# EAGLE library part XC3S4000FG1156 (library xilinx_spartan3_virtex4_and_5)
Xilinx FPGA
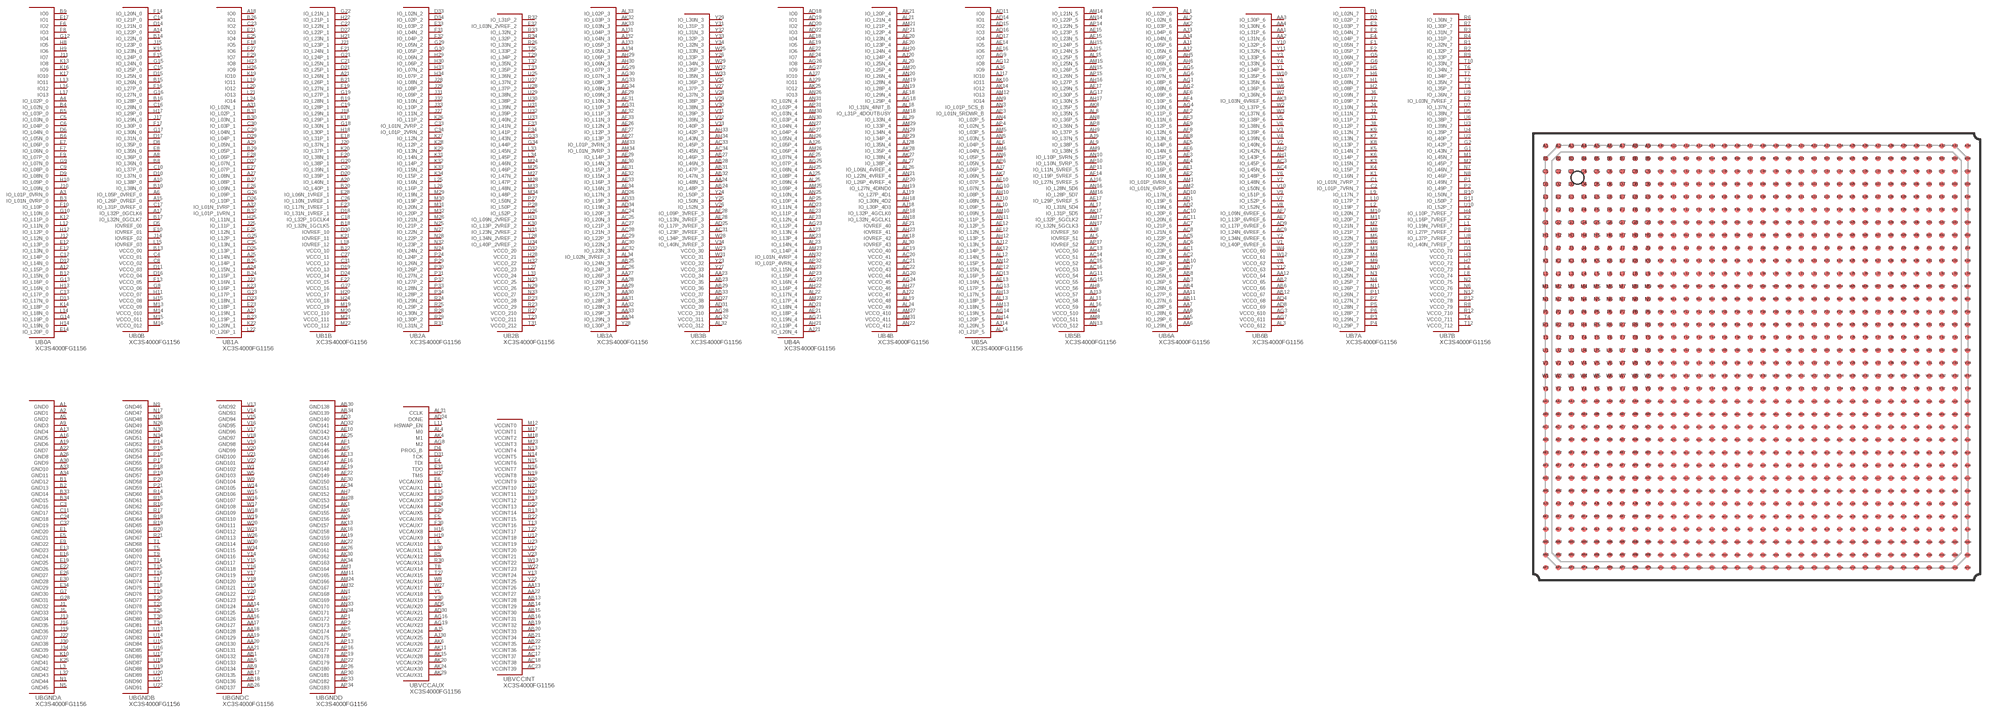
[diagram p26: symbol with the pads of FG1156; footprint FG1156]

Designator prefix U; gates B0A=XC3S4000FG1156_0A B0B=XC3S4000FG1156_0B B1A=XC3S4000FG1156_1A B1B=XC3S4000FG1156_1B B2A=XC3S4000FG1156_2A B2B=XC3S4000FG1156_2B B3A=XC3S4000FG1156_3A B3B=XC3S4000FG1156_3B B4A=XC3S4000FG1156_4A B4B=XC3S4000FG1156_4B B5A=XC3S4000FG1156_5A B5B=XC3S4000FG1156_5B B6A=XC3S4000FG1156_6A B6B=XC3S4000FG1156_6B B7A=XC3S4000FG1156_7A B7B=XC3S4000FG1156_7B BGNDA=XC3S4000FG1156_GNDA BGNDB=XC3S4000FG1156_GNDB BGNDC=XC3S4000FG1156_GNDC BGNDD=XC3S4000FG1156_GNDD BVCCAUX=XC3S4000FG1156_VCCAUX BVCCINT=XC3S4000FG1156_VCCINT

## XC3S4000FG1156  [FG1156]
A1  BGNDA:GND0  pas
A2  BGNDA:GND1  pas
A3  B0A:IO_L01P_0VRN_0
A4  B0A:IO_L02P_0
A5  BGNDA:GND2  pas
A6  B0B:IO_L05P_0VREF_0
A8  B0B:IO_L36P_0
A9  BGNDA:GND3  pas
A10  B0B:IO_L38P_0
A12  B0A:IO_L15P_0
A13  BGNDA:GND4  pas
A14  B0B:IO_L22P_0
A15  B0B:IO_L26P_0VREF_0
A16  BGNDA:GND5  pas
A17  B0B:IO_L32P_0GCLK6
A18  B1A:IO0
A19  BGNDA:GND6  pas
A20  B1B:IO_L40N_1
A21  B1B:IO_L26N_1
A22  BGNDA:GND7  pas
A23  B1A:IO_L19N_1
A24  B1A:IO_L15N_1
A25  B1A:IO_L14N_1
A26  BGNDA:GND8  pas
A27  B1A:IO_L08N_1
A29  B1A:IO_L05N_1
A30  BGNDA:GND9  pas
A31  B1A:IO_L02N_1
A32  B1A:IO_L01N_1VRP_1
A33  BGNDA:GND10  pas
A34  BGNDA:GND11  pas
AA1  B6B:IO_L31P_6
AA2  B6B:IO_L31N_6
AA3  B6B:IO_L30P_6
AA4  B6B:IO_L30N_6
AA5  B6A:IO_L29P_6
AA6  B6A:IO_L29N_6
AA7  B6A:IO_L28P_6
AA8  B6A:IO_L28N_6
AA11  B6A:IO_L27P_6
AA12  B6B:VCCO_64  pas
AA13  BVCCINT:VCCINT26  pas
AA14  BGNDC:GND124  pas
AA15  BGNDC:GND125  pas
AA16  BGNDC:GND126  pas
AA17  BGNDC:GND127  pas
AA18  BGNDC:GND128  pas
AA19  BGNDC:GND129  pas
AA20  BGNDC:GND130  pas
AA21  BGNDC:GND131  pas
AA22  BVCCINT:VCCINT27  pas
AA23  B3B:VCCO_34  pas
AA24  B3B:IO_L48N_3
AA27  B3A:IO_L26P_3
AA28  B3A:IO_L26N_3
AA29  B3A:IO_L27P_3
AA30  B3A:IO_L27N_3
AA31  B3A:IO_L28P_3
AA32  B3A:IO_L28N_3
AA33  B3A:IO_L29P_3
AA34  B3A:IO_L29N_3
AB1  BGNDC:GND132  pas
AB2  B6B:VCCO_65  pas
AB3  B6A:IO_L26P_6
AB4  B6A:IO_L26N_6
AB5  BGNDC:GND133  pas
AB6  B6B:VCCO_66  pas
AB7  B6A:IO_L25P_6
AB8  B6A:IO_L25N_6
AB9  BGNDC:GND134  pas
AB10  B6A:IO_L24P_6
AB11  B6A:IO_L27N_6
AB12  B6B:VCCO_67  pas
AB13  BVCCINT:VCCINT28  pas
AB14  BVCCINT:VCCINT29  pas
AB15  BVCCINT:VCCINT30  pas
AB16  BVCCINT:VCCINT31  pas
AB17  BGNDC:GND135  pas
AB18  BGNDC:GND136  pas
AB19  BVCCINT:VCCINT32  pas
AB20  BVCCINT:VCCINT33  pas
AB21  BVCCINT:VCCINT34  pas
AB22  BVCCINT:VCCINT35  pas
AB23  B3B:VCCO_35  pas
AB24  B3B:IO_L48P_3
AB25  B3A:IO_L24N_3
AB26  BGNDC:GND137  pas
AB27  B3B:IO_L46P_3
AB28  B3B:IO_L46N_3
AB29  B3B:VCCO_36  pas
AB30  BGNDD:GND138  pas
AB31  B3B:IO_L47P_3
AB32  B3B:IO_L47N_3
AB33  B3B:VCCO_37  pas
AB34  BGNDD:GND139  pas
AC1  B6A:IO_L23P_6
AC2  B6A:IO_L23N_6
AC3  B6B:IO_L45P_6
AC4  B6B:IO_L45N_6
AC5  B6A:IO_L22P_6
AC6  B6A:IO_L22N_6
AC7  B6A:IO_L21P_6
AC8  B6A:IO_L21N_6
AC9  B6B:IO_L24N_6VREF_6
AC10  B6A:IO_L20P_6
AC11  B6A:IO_L20N_6
AC12  BVCCINT:VCCINT36  pas
AC13  B5B:VCCO_50  pas
AC14  B5B:VCCO_51  pas
AC15  B5B:VCCO_52  pas
AC16  B5B:VCCO_53  pas
AC17  BVCCINT:VCCINT37  pas
AC18  BVCCINT:VCCINT38  pas
AC19  B4B:VCCO_40  pas
AC20  B4B:VCCO_41  pas
AC21  B4B:VCCO_42  pas
AC22  B4B:VCCO_43  pas
AC23  BVCCINT:VCCINT39  pas
AC24  B3A:IO_L20P_3
AC25  B3A:IO_L20N_3
AC26  B3A:IO_L24P_3
AC27  B3A:IO_L21P_3
AC28  B3A:IO_L21N_3
AC29  B3A:IO_L22P_3
AC30  B3A:IO_L22N_3
AC31  B3B:IO_L23P_3VREF_3
AC32  B3A:IO_L23N_3
AC33  B3B:IO_L45P_3
AC34  B3B:IO_L45N_3
AD1  B6A:IO_L19P_6
AD2  B6A:IO_L19N_6
AD3  BGNDD:GND140  pas
AD4  B6B:VCCO_68  pas
AD5  BVCCAUX:VCCAUX20  pas
AD8  B6B:VCCO_69  pas
AD9  B6B:IO_L17P_6VREF_6
AD10  B6A:IO_L17N_6
AD11  B5A:IO0
AD13  B5A:IO_L16P_5
AD14  B5A:IO1
AD15  B5A:IO2
AD16  B5A:IO3
AD17  B5A:IO4
AD18  B4A:IO0
AD19  B4A:IO1
AD20  B4A:IO2
AD21  B4A:IO_L18N_4
AD22  B4A:IO3
AD23  B4A:IO_L11N_4
AD24  BVCCAUX:DONE
AD25  B3B:IO_L17P_3VREF_3
AD26  B3A:IO_L17N_3
AD27  B3B:VCCO_38  pas
AD30  BVCCAUX:VCCAUX21  pas
AD31  B3B:VCCO_39  pas
AD32  BGNDD:GND141  pas
AD33  B3A:IO_L19P_3
AD34  B3A:IO_L19N_3
AE1  B6A:IO_L16P_6
AE2  B6A:IO_L16N_6
AE3  B6A:IO_L15P_6
AE4  B6A:IO_L15N_6
AE5  B6A:IO_L14P_6
AE6  B6A:IO_L14N_6
AE7  B6B:IO_L13P_6VREF_6
AE8  B6A:IO_L13N_6
AE9  B6A:IO_L12P_6
AE10  BGNDD:GND142  pas
AE12  B5A:IO_L12P_5
AE13  B5A:IO_L16N_5
AE14  B5A:IO5
AE15  B5B:IO_L23P_5
AE16  B5A:IO6
AE17  B5B:IO_L29P_5VREF_5
AE18  B4A:IO4
AE19  B4A:IO5
AE20  B4B:IO_L23N_4
AE21  B4A:IO_L18P_4
AE22  B4A:IO6
AE23  B4A:IO_L11P_4
AE25  BGNDD:GND143  pas
AE26  B3A:IO_L12N_3
AE27  B3A:IO_L13P_3
AE28  B3B:IO_L13N_3VREF_3
AE29  B3A:IO_L14P_3
AE30  B3A:IO_L14N_3
AE31  B3A:IO_L15P_3
AE32  B3A:IO_L15N_3
AE33  B3A:IO_L16P_3
AE34  B3A:IO_L16N_3
AF1  BGNDD:GND144  pas
AF2  B6A:IO_L11P_6
AF3  B6A:IO_L11N_6
AF4  B6A:IO_L10P_6
AF5  BGNDD:GND145  pas
AF6  B6A:IO_L09P_6
AF7  B6B:IO_L09N_6VREF_6
AF8  B6A:IO_L12N_6
AF10  B5A:IO_L07P_5
AF12  B5A:IO_L12N_5
AF13  BGNDD:GND146  pas
AF14  B5B:IO_L19P_5VREF_5
AF15  B5B:IO_L23N_5
AF16  BGNDD:GND147  pas
AF17  B5B:IO_L29N_5
AF18  B4B:IO_L29N_4
AF19  BGNDD:GND148  pas
AF20  B4B:IO_L23P_4
AF21  B4B:IOVREF_40
AF22  BGNDD:GND149  pas
AF23  B4A:IO_L12N_4
AF24  B4A:IO7
AF25  B4A:IO_L07N_4
AF27  B3A:IO_L12P_3
AF28  B3B:IO_L09P_3VREF_3
AF29  B3A:IO_L09N_3
AF30  BGNDD:GND150  pas
AF31  B3A:IO_L10N_3
AF32  B3A:IO_L11P_3
AF33  B3A:IO_L11N_3
AF34  BGNDD:GND151  pas
AG1  B6A:IO_L08P_6
AG2  B6A:IO_L08N_6
AG3  B6B:VCCO_610  pas
AG4  B6A:IO_L10N_6
AG5  B6A:IO_L07P_6
AG6  B6A:IO_L07N_6
AG7  B6B:VCCO_611  pas
AG8  BVCCAUX:M2
AG9  B5A:IO7
AG10  B5A:IO_L07N_5
AG11  B5B:VCCO_54  pas
AG12  B5A:IO8
AG13  B5A:IO_L17P_5
AG14  B5A:IO_L19N_5
AG15  B5B:VCCO_55  pas
AG16  BVCCAUX:VCCAUX22  pas
AG17  B5B:IO_L30P_5
AG18  B4B:IO_L29P_4
AG19  BVCCAUX:VCCAUX23  pas
AG20  B4B:VCCO_44  pas
AG21  B4A:IO_L19N_4
AG22  B4A:IO_L16N_4
AG23  B4A:IO_L12P_4
AG24  B4B:VCCO_45  pas
AG25  B4A:IO_L07P_4
AG26  B4A:IO8
AG27  B4A:IO9
AG28  B3B:VCCO_310  pas
AG29  B3A:IO_L07P_3
AG30  B3A:IO_L07N_3
AG31  B3A:IO_L10P_3
AG32  B3B:VCCO_311  pas
AG33  B3A:IO_L08P_3
AG34  B3A:IO_L08N_3
AH1  B6B:IO_L43P_6
AH2  B6B:IO_L42N_6
AH5  B6A:IO_L06P_6
AH6  B6A:IO_L06N_6
AH7  BGNDD:GND152  pas
AH8  B5B:VCCO_56  pas
AH9  B5B:IO_L37P_5
AH10  B5A:IO_L08P_5
AH12  B5A:IO_L13P_5
AH13  B5A:IO_L17N_5
AH14  B5A:IO_L20P_5
AH15  B5B:IO_L24P_5
AH16  B5B:IO_L27P_5
AH17  B5B:IO_L30N_5
AH18  B4B:IO_L30N_4D2
AH19  B4B:IO_L27N_4DIND0
AH20  B4B:IO_L24N_4
AH21  B4A:IO_L19P_4
AH22  B4A:IO_L16P_4
AH23  B4B:IOVREF_41
AH25  B4A:IO_L08N_4
AH26  B4A:IO_L05N_4
AH27  B4B:VCCO_46  pas
AH28  BGNDD:GND153  pas
AH29  B3A:IO_L06P_3
AH30  B3A:IO_L06N_3
AH33  B3B:IO_L42P_3
AH34  B3B:IO_L43N_3
AJ1  B6A:IO_L05P_6
AJ2  B6A:IO_L05N_6
AJ3  B6A:IO_L04P_6
AJ4  B6A:IO_L04N_6
AJ5  BVCCAUX:VCCAUX24  pas
AJ6  B5A:IO9
AJ7  B5A:IO_L06P_5
AJ8  B5B:IOVREF_50
AJ9  B5B:IO_L37N_5
AJ10  B5A:IO_L08N_5
AJ12  B5A:IO_L13N_5
AJ13  B5B:VCCO_57  pas
AJ14  B5A:IO_L20N_5
AJ15  B5B:IO_L24N_5
AJ16  B5B:IO_L27N_5VREF_5
AJ17  B5A:IO10
AJ18  B4B:IO_L30P_4D3
AJ19  B4B:IO_L27P_4D1
AJ20  B4B:IO_L24P_4
AJ21  B4A:IO_L20N_4
AJ22  B4B:VCCO_47  pas
AJ23  B4A:IO_L13N_4
AJ25  B4A:IO_L08P_4
AJ26  B4A:IO_L05P_4
AJ27  B4A:IO10
AJ28  B4B:IO_L35N_4
AJ29  B4A:IO11
AJ30  BVCCAUX:VCCAUX25  pas
AJ31  B3A:IO_L04P_3
AJ32  B3A:IO_L04N_3
AJ33  B3A:IO_L05P_3
AJ34  B3A:IO_L05N_3
AK1  BGNDD:GND154  pas
AK2  B6A:IO_L03P_6
AK3  B6B:IO_L03N_6VREF_6
AK4  BVCCAUX:M1
AK5  BGNDD:GND155  pas
AK6  BVCCAUX:VCCAUX26  pas
AK7  B5A:IO_L06N_5
AK8  B5B:IO_L35P_5
AK9  BGNDD:GND156  pas
AK10  B5A:IO11
AK11  BVCCAUX:VCCAUX27  pas
AK12  B5A:IO_L14P_5
AK13  BGNDD:GND157  pas
AK14  B5A:IO12
AK15  BVCCAUX:VCCAUX28  pas
AK16  BGNDD:GND158  pas
AK17  B5B:IO_L31P_5D5
AK18  B4B:IOVREF_42
AK19  BGNDD:GND159  pas
AK20  BVCCAUX:VCCAUX29  pas
AK21  B4B:IO_L20P_4
AK22  BGNDD:GND160  pas
AK23  B4A:IO_L13P_4
AK24  BVCCAUX:VCCAUX30  pas
AK25  B4A:IO12
AK26  BGNDD:GND161  pas
AK27  B4B:IO_L38N_4
AK28  B4B:IO_L35P_4
AK29  BVCCAUX:VCCAUX31  pas
AK30  BGNDD:GND162  pas
AK32  B3A:IO_L03P_3
AK33  B3A:IO_L03N_3
AK34  BGNDD:GND163  pas
AL1  B6A:IO_L02P_6
AL2  B6A:IO_L02N_6
AL3  B6B:VCCO_612  pas
AL4  BVCCAUX:M0
AL5  B5B:IOVREF_51
AL6  B5A:IO_L04P_5
AL8  B5B:IO_L35N_5
AL9  B5B:IO_L38P_5
AL10  B5A:IO_L09P_5
AL11  B5B:VCCO_58  pas
AL12  B5A:IO_L14N_5
AL13  B5A:IO_L18P_5
AL14  B5A:IO_L21P_5
AL15  B5B:IO_L25P_5
AL16  B5B:VCCO_59  pas
AL17  B5B:IO_L31N_5D4
AL18  B4B:IO_L31N_4INIT_B
AL19  B4B:VCCO_48  pas
AL20  B4B:IO_L25N_4
AL21  B4B:IO_L21N_4
AL22  B4A:IO_L17N_4
AL23  B4A:IO_L14N_4
AL24  B4B:VCCO_49  pas
AL25  B4A:IO_L09N_4
AL26  B4B:IO_L06N_4VREF_4
AL27  B4B:IO_L38P_4
AL29  B4B:IO_L33N_4
AL30  B4B:IOVREF_43
AL31  BVCCAUX:CCLK
AL32  B3B:VCCO_312  pas
AL33  B3A:IO_L02P_3
AL34  B3A:IO_L02N_3VREF_3
AM1  B6A:IO_L01P_6VRN_6
AM2  B6A:IO_L01N_6VRP_6
AM3  BGNDD:GND164  pas
AM4  B5B:VCCO_510  pas
AM5  B5A:IO_L03P_5
AM6  B5A:IO_L04N_5
AM8  B5B:VCCO_511  pas
AM9  B5B:IO_L38N_5
AM10  B5A:IO_L09N_5
AM11  BGNDD:GND165  pas
AM12  B5A:IO13
AM13  B5A:IO_L18N_5
AM14  B5B:IO_L21N_5
AM15  B5B:IO_L25N_5
AM16  B5B:IO_L28P_5D7
AM17  B5B:IO_L32P_5GCLK2
AM18  B4B:IO_L31P_4DOUTBUSY
AM19  B4B:IO_L28N_4
AM20  B4B:IO_L25P_4
AM21  B4B:IO_L21P_4
AM22  B4A:IO_L17P_4
AM23  B4A:IO_L14P_4
AM24  BGNDD:GND166  pas
AM25  B4A:IO_L09P_4
AM26  B4A:IO_L06P_4
AM27  B4B:VCCO_410  pas
AM29  B4B:IO_L33P_4
AM30  B4A:IO_L03N_4
AM31  B4B:VCCO_411  pas
AM32  BGNDD:GND167  pas
AM33  B3A:IO_L01P_3VRN_3
AM34  B3A:IO_L01N_3VRP_3
AN1  BGNDD:GND168  pas
AN2  BGNDD:GND169  pas
AN3  B5A:IO_L01P_5CS_B
AN4  B5A:IO_L02P_5
AN5  B5A:IO_L03N_5
AN6  B5A:IO_L05P_5
AN8  B5B:IO_L36P_5
AN9  B5A:IO14
AN10  B5B:IO_L10P_5VRN_5
AN11  B5A:IO_L11P_5
AN12  B5A:IO_L15P_5
AN13  B5B:VCCO_512  pas
AN14  B5B:IO_L22P_5
AN15  B5B:IO_L26P_5
AN16  B5B:IO_L28N_5D6
AN17  B5B:IO_L32N_5GCLK3
AN18  B4B:IO_L32N_4GCLK1
AN19  B4B:IO_L28P_4
AN20  B4B:IO_L26N_4
AN21  B4B:IO_L22N_4VREF_4
AN22  B4B:VCCO_412  pas
AN23  B4A:IO_L15N_4
AN25  B4A:IO_L10N_4
AN26  B4A:IO13
AN27  B4A:IO_L04N_4
AN29  B4B:IO_L34N_4
AN30  B4A:IO_L03P_4
AN31  B4A:IO_L02N_4
AN32  B4A:IO_L01N_4VRP_4
AN33  BGNDD:GND170  pas
AN34  BGNDD:GND171  pas
AP1  BGNDD:GND172  pas
AP2  BGNDD:GND173  pas
AP3  B5A:IO_L01N_5RDWR_B
AP4  B5A:IO_L02N_5
AP5  BGNDD:GND174  pas
AP6  B5A:IO_L05N_5
AP8  B5B:IO_L36N_5
AP9  BGNDD:GND175  pas
AP10  B5B:IO_L10N_5VRP_5
AP11  B5B:IO_L11N_5VREF_5
AP12  B5A:IO_L15N_5
AP13  BGNDD:GND176  pas
AP14  B5B:IO_L22N_5
AP15  B5B:IO_L26N_5
AP16  BGNDD:GND177  pas
AP17  B5B:IOVREF_52
AP18  B4B:IO_L32P_4GCLK0
AP19  BGNDD:GND178  pas
AP20  B4B:IO_L26P_4VREF_4
AP21  B4B:IO_L22P_4
AP22  BGNDD:GND179  pas
AP23  B4A:IO_L15P_4
AP25  B4A:IO_L10P_4
AP26  BGNDD:GND180  pas
AP27  B4A:IO_L04P_4
AP29  B4B:IO_L34P_4
AP30  BGNDD:GND181  pas
AP31  B4A:IO_L02P_4
AP32  B4A:IO_L01P_4VRN_4
AP33  BGNDD:GND182  pas
AP34  BGNDD:GND183  pas
B1  BGNDA:GND12  pas
B2  BGNDA:GND13  pas
B3  B0A:IO_L01N_0VRP_0
B4  B0A:IO_L02N_0
B5  B0A:IO_L03P_0
B6  B0A:IO_L05N_0
B8  B0B:IO_L36N_0
B9  B0A:IO0
B10  B0B:IO_L38N_0
B12  B0A:IO_L15N_0
B13  B0B:VCCO_00  pas
B14  B0B:IO_L22N_0
B15  B0B:IO_L26N_0
B16  B0B:IO_L28P_0
B17  B0B:IO_L32N_0GCLK7
B18  B1B:IO_L32N_1GCLK5
B19  B1B:IO_L28N_1
B20  B1B:IO_L40P_1
B21  B1B:IO_L26P_1
B22  B1B:VCCO_10  pas
B23  B1A:IO_L19P_1
B24  B1A:IO_L15P_1
B25  B1A:IO_L14P_1
B26  B1A:IO1
B27  B1A:IO_L08P_1
B29  B1A:IO_L05P_1
B30  B1A:IO_L03N_1
B31  B1A:IO_L02P_1
B32  B1A:IO_L01P_1VRN_1
B33  BGNDA:GND14  pas
B34  BGNDA:GND15  pas
C1  B7A:IO_L01N_7VRP_7
C2  B7A:IO_L01P_7VRN_7
C3  BGNDA:GND16  pas
C4  B0B:VCCO_01  pas
C5  B0A:IO_L03N_0
C6  B0A:IO_L04P_0
C8  B0B:VCCO_02  pas
C9  B0A:IO_L08P_0
C10  B0B:IO_L37P_0
C11  BGNDA:GND17  pas
C12  B0A:IO_L14P_0
C13  B0A:IO_L17P_0
C14  B0B:IO_L21P_0
C15  B0B:IO_L25P_0
C16  B0B:IO_L28N_0
C17  B0B:IO_L31P_0VREF_0
C18  B1B:IO_L32P_1GCLK4
C19  B1B:IO_L28P_1
C20  B1B:IO_L39N_1
C21  B1B:IO_L25N_1
C22  B1B:IO_L22N_1
C23  B1A:IO2
C24  BGNDA:GND18  pas
C25  B1A:IO_L13N_1
C26  B1B:IO_L10N_1VREF_1
C27  B1B:VCCO_11  pas
C29  B1A:IO_L04N_1
C30  B1A:IO_L03P_1
C31  B1B:VCCO_12  pas
C32  BGNDA:GND19  pas
C33  B2A:IO_L01N_2VRP_2
C34  B2A:IO_L01P_2VRN_2
D1  B7A:IO_L02N_7
D2  B7A:IO_L02P_7
D3  B7B:VCCO_70  pas
D4  BVCCAUX:PROG_B
D5  B0B:IOVREF_00
D6  B0A:IO_L04N_0
D8  B0B:IO_L35P_0
D9  B0A:IO_L08N_0
D10  B0B:IO_L37N_0
D11  B0B:VCCO_03  pas
D12  B0A:IO_L14N_0
D13  B0A:IO_L17N_0
D14  B0B:IO_L21N_0
D15  B0B:IO_L25N_0
D16  B0B:VCCO_04  pas
D17  B0B:IO_L31N_0
D18  B1B:IO_L31N_1VREF_1
D19  B1B:VCCO_13  pas
D20  B1B:IO_L39P_1
D21  B1B:IO_L25P_1
D22  B1B:IO_L22P_1
D23  B1A:IO_L18N_1
D24  B1B:VCCO_14  pas
D25  B1A:IO_L13P_1
D26  B1A:IO_L10P_1
D27  B1A:IO_L07N_1
D29  B1A:IO_L04P_1
D30  B1B:IOVREF_10
D31  BVCCAUX:TCK
D32  B2B:VCCO_20  pas
D33  B2A:IO_L02N_2
D34  B2A:IO_L02P_2
E1  BGNDA:GND20  pas
E2  B7B:IO_L03N_7VREF_7
E3  B7A:IO_L03P_7
E4  BVCCAUX:TDI
E5  BGNDA:GND21  pas
E6  BVCCAUX:VCCAUX0  pas
E7  B0A:IO_L06P_0
E8  B0B:IO_L35N_0
E9  BGNDA:GND22  pas
E10  B0B:IOVREF_01
E11  BVCCAUX:VCCAUX1  pas
E12  B0A:IO_L13P_0
E13  BGNDA:GND23  pas
E14  B0A:IO_L20P_0
E15  BVCCAUX:VCCAUX2  pas
E16  BGNDA:GND24  pas
E17  B0A:IO1
E18  B1B:IO_L31P_1
E19  BGNDA:GND25  pas
E20  BVCCAUX:VCCAUX3  pas
E21  B1A:IO3
E22  BGNDA:GND26  pas
E23  B1A:IO_L18P_1
E24  BVCCAUX:VCCAUX4  pas
E25  B1A:IO4
E26  BGNDA:GND27  pas
E27  B1A:IO_L07P_1
E28  B1B:IO_L06N_1VREF_1
E29  BVCCAUX:VCCAUX5  pas
E30  BGNDA:GND28  pas
E31  BVCCAUX:TDO
E32  B2B:IO_L03N_2VREF_2
E33  B2A:IO_L03P_2
E34  BGNDA:GND29  pas
F1  B7A:IO_L05N_7
F2  B7A:IO_L05P_7
F3  B7A:IO_L04N_7
F4  B7A:IO_L04P_7
F5  BVCCAUX:VCCAUX6  pas
F6  B0A:IO2
F7  B0A:IO_L06N_0
F8  B0A:IO3
F9  B0A:IO_L07P_0
F10  B0A:IO_L10P_0
F12  B0A:IO_L13N_0
F13  B0B:VCCO_05  pas
F14  B0B:IO_L20N_0
F15  B0B:IO_L24P_0
F16  B0B:IO_L27P_0
F17  B0B:IO_L30P_0
F18  B1A:IO5
F19  B1B:IO_L27N_1
F20  B1B:IO_L38N_1
F21  B1B:IO_L24N_1
F22  B1B:VCCO_15  pas
F23  B1B:IO_L17N_1VREF_1
F25  B1A:IO_L12N_1
F26  B1A:IO_L09N_1
F27  B1A:IO6
F28  B1A:IO_L06P_1
F29  B1A:IO7
F30  BVCCAUX:VCCAUX7  pas
F31  B2A:IO_L04N_2
F32  B2A:IO_L04P_2
F33  B2B:IO_L41N_2
F34  B2B:IO_L41P_2
G1  B7B:IO_L43N_7
G2  B7B:IO_L42P_7
G5  B7A:IO_L06N_7
G6  B7A:IO_L06P_7
G7  BGNDA:GND30  pas
G8  B0B:VCCO_06  pas
G9  B0A:IO_L07N_0
G10  B0A:IO_L10N_0
G12  B0A:IO4
G13  B0A:IO_L16P_0
G14  B0A:IO_L19P_0
G15  B0B:IO_L24N_0
G16  B0B:IO_L27N_0
G17  B0B:IO_L30N_0
G18  B1B:IO_L30N_1
G19  B1B:IO_L27P_1
G20  B1B:IO_L38P_1
G21  B1B:IO_L24P_1
G22  B1B:IO_L21N_1
G23  B1A:IO_L17P_1
G25  B1A:IO_L12P_1
G26  B1A:IO_L09P_1
G27  B1B:VCCO_16  pas
G28  BGNDA:GND31  pas
G29  B2A:IO_L05N_2
G30  B2A:IO_L05P_2
G33  B2B:IO_L43N_2
G34  B2B:IO_L44P_2
H1  B7A:IO_L08N_7
H2  B7A:IO_L08P_7
H3  B7B:VCCO_71  pas
H4  B7B:IO_L10P_7VREF_7
H5  B7A:IO_L07N_7
H6  B7A:IO_L07P_7
H7  B7B:VCCO_72  pas
H8  B0A:IO5
H9  B0A:IO6
H10  B0A:IO_L09P_0
H11  B0B:VCCO_07  pas
H12  B0A:IO_L12P_0
H13  B0A:IO_L16N_0
H14  B0A:IO_L19N_0
H15  B0B:VCCO_08  pas
H16  BVCCAUX:VCCAUX8  pas
H17  B0B:IO_L29P_0
H18  B1B:IO_L30P_1
H19  BVCCAUX:VCCAUX9  pas
H20  B1B:VCCO_17  pas
H21  B1B:IO_L23N_1
H22  B1B:IO_L21P_1
H23  B1A:IO8
H24  B1B:VCCO_18  pas
H25  B1A:IO_L11N_1
H26  B1A:IO9
H27  BVCCAUX:TMS
H28  B2B:VCCO_21  pas
H29  B2A:IO_L06N_2
H30  B2A:IO_L06P_2
H31  B2B:IO_L09N_2VREF_2
H32  B2B:VCCO_22  pas
H33  B2A:IO_L07N_2
H34  B2A:IO_L07P_2
J1  BGNDA:GND32  pas
J2  B7A:IO_L11N_7
J3  B7A:IO_L11P_7
J4  B7A:IO_L10N_7
J5  BGNDA:GND33  pas
J6  B7A:IO_L09N_7
J7  B7A:IO_L09P_7
J8  B7A:IO_L12P_7
J10  B0A:IO_L09N_0
J11  B0A:IO7
J12  B0A:IO_L12N_0
J13  BGNDA:GND34  pas
J14  B0B:IOVREF_02
J15  B0B:IO_L23P_0
J16  BGNDA:GND35  pas
J17  B0B:IO_L29N_0
J18  B1B:IO_L29N_1
J19  BGNDA:GND36  pas
J20  B1B:IO_L37N_1
J21  B1B:IO_L23P_1
J22  BGNDA:GND37  pas
J23  B1A:IO_L16N_1
J25  B1A:IO_L11P_1
J27  B2A:IO_L11N_2
J28  B2A:IO_L08N_2
J29  B2A:IO_L08P_2
J30  BGNDA:GND38  pas
J31  B2A:IO_L09P_2
J32  B2A:IO_L10N_2
J33  B2A:IO_L10P_2
J34  BGNDA:GND39  pas
K1  B7A:IO_L16N_7
K2  B7B:IO_L16P_7VREF_7
K3  B7A:IO_L15N_7
K4  B7A:IO_L15P_7
K5  B7A:IO_L14N_7
K6  B7A:IO_L14P_7
K7  B7A:IO_L13N_7
K8  B7A:IO_L13P_7
K9  B7A:IO_L12N_7
K10  BGNDA:GND40  pas
K12  B0A:IO_L11P_0
K13  B0A:IO8
K14  B0A:IO_L18P_0
K15  B0B:IO_L23N_0
K16  B0A:IO9
K17  B0A:IO10
K18  B1B:IO_L29P_1
K19  B1A:IO10
K20  B1B:IO_L37P_1
K21  B1B:IOVREF_11
K22  B1A:IO_L20N_1
K23  B1A:IO_L16P_1
K25  BGNDA:GND41  pas
K26  B2A:IO_L11P_2
K27  B2A:IO_L12N_2
K28  B2A:IO_L12P_2
K29  B2A:IO_L13N_2
K30  B2B:IO_L13P_2VREF_2
K31  B2A:IO_L14N_2
K32  B2A:IO_L14P_2
K33  B2A:IO_L15N_2
K34  B2A:IO_L15P_2
L1  B7B:IO_L19N_7VREF_7
L2  B7A:IO_L19P_7
L3  BGNDA:GND42  pas
L4  B7B:VCCO_73  pas
L5  BVCCAUX:VCCAUX10  pas
L8  B7B:VCCO_74  pas
L9  B7A:IO_L17N_7
L10  B7A:IO_L17P_7
L11  BVCCAUX:HSWAP_EN
L12  B0A:IO_L11N_0
L13  B0A:IO11
L14  B0A:IO_L18N_0
L15  B0B:IOVREF_03
L16  B0A:IO12
L17  B0A:IO13
L18  B1B:IOVREF_12
L19  B1A:IO11
L20  B1A:IO12
L21  B1A:IO13
L22  B1A:IO_L20P_1
L24  B1A:IO14
L25  B2A:IO_L16N_2
L26  B2A:IO_L16P_2
L27  B2B:VCCO_23  pas
L30  BVCCAUX:VCCAUX11  pas
L31  B2B:VCCO_24  pas
L32  BGNDA:GND43  pas
L33  B2B:IO_L45N_2
L34  B2B:IO_L45P_2
M1  B7B:IO_L45N_7
M2  B7B:IO_L45P_7
M3  B7A:IO_L23N_7
M4  B7A:IO_L23P_7
M5  B7A:IO_L22N_7
M6  B7A:IO_L22P_7
M7  B7A:IO_L21N_7
M8  B7A:IO_L21P_7
M9  B7A:IO_L24P_7
M10  B7A:IO_L20N_7
M11  B7A:IO_L20P_7
M12  BVCCINT:VCCINT0  pas
M13  B0B:VCCO_09  pas
M14  B0B:VCCO_010  pas
M15  B0B:VCCO_011  pas
M16  B0B:VCCO_012  pas
M17  BVCCINT:VCCINT1  pas
M18  BVCCINT:VCCINT2  pas
M19  B1B:VCCO_19  pas
M20  B1B:VCCO_110  pas
M21  B1B:VCCO_111  pas
M22  B1B:VCCO_112  pas
M23  BVCCINT:VCCINT3  pas
M24  B2B:IO_L46N_2
M25  B2B:IO_L46P_2
M26  B2A:IO_L21N_2
M27  B2B:IO_L47N_2
M28  B2B:IO_L47P_2
M29  B2A:IO_L19N_2
M30  B2A:IO_L19P_2
M31  B2A:IO_L20N_2
M32  B2A:IO_L20P_2
M33  B2B:IO_L48N_2
M34  B2B:IO_L48P_2
N1  BGNDA:GND44  pas
N2  B7B:VCCO_75  pas
N3  B7A:IO_L25N_7
N4  B7A:IO_L25P_7
N5  BGNDA:GND45  pas
N6  B7B:VCCO_76  pas
N7  B7B:IO_L46N_7
N8  B7B:IO_L46P_7
N9  BGNDB:GND46  pas
N10  B7A:IO_L24N_7
N11  B7A:IO_L26P_7
N12  B7B:VCCO_77  pas
N13  BVCCINT:VCCINT4  pas
N14  BVCCINT:VCCINT5  pas
N15  BVCCINT:VCCINT6  pas
N16  BVCCINT:VCCINT7  pas
N17  BGNDB:GND47  pas
N18  BGNDB:GND48  pas
N19  BVCCINT:VCCINT8  pas
N20  BVCCINT:VCCINT9  pas
N21  BVCCINT:VCCINT10  pas
N22  BVCCINT:VCCINT11  pas
N23  B2B:VCCO_25  pas
N24  B2A:IO_L24N_2
N25  B2A:IO_L21P_2
N26  BGNDB:GND49  pas
N27  B2A:IO_L22N_2
N28  B2A:IO_L22P_2
N29  B2B:VCCO_26  pas
N30  BGNDB:GND50  pas
N31  B2B:IO_L23N_2VREF_2
N32  B2A:IO_L23P_2
N33  B2B:VCCO_27  pas
N34  BGNDB:GND51  pas
P1  B7B:IO_L49N_7
P2  B7B:IO_L49P_7
P3  B7A:IO_L29N_7
P4  B7A:IO_L29P_7
P5  B7A:IO_L28N_7
P6  B7A:IO_L28P_7
P7  B7A:IO_L27N_7
P8  B7B:IO_L27P_7VREF_7
P11  B7A:IO_L26N_7
P12  B7B:VCCO_78  pas
P13  BVCCINT:VCCINT12  pas
P14  BGNDB:GND52  pas
P15  BGNDB:GND53  pas
P16  BGNDB:GND54  pas
P17  BGNDB:GND55  pas
P18  BGNDB:GND56  pas
P19  BGNDB:GND57  pas
P20  BGNDB:GND58  pas
P21  BGNDB:GND59  pas
P22  BVCCINT:VCCINT13  pas
P23  B2B:VCCO_28  pas
P24  B2A:IO_L24P_2
P27  B2B:IO_L50N_2
P28  B2B:IO_L50P_2
P29  B2A:IO_L26N_2
P30  B2A:IO_L26P_2
P31  B2A:IO_L27N_2
P32  B2A:IO_L27P_2
P33  B2A:IO_L28N_2
P34  B2A:IO_L28P_2
R1  B7B:IO_L32N_7
R2  B7B:IO_L32P_7
R3  B7B:IO_L31N_7
R4  B7B:IO_L31P_7
R5  BVCCAUX:VCCAUX12  pas
R6  B7B:IO_L30N_7
R7  B7B:IO_L30P_7
R8  B7B:VCCO_79  pas
R9  B7B:IO_L33P_7
R10  B7B:IO_L50N_7
R11  B7B:IO_L50P_7
R12  B7B:VCCO_710  pas
R13  BVCCINT:VCCINT14  pas
R14  BGNDB:GND60  pas
R15  BGNDB:GND61  pas
R16  BGNDB:GND62  pas
R17  BGNDB:GND63  pas
R18  BGNDB:GND64  pas
R19  BGNDB:GND65  pas
R20  BGNDB:GND66  pas
R21  BGNDB:GND67  pas
R22  BVCCINT:VCCINT15  pas
R23  B2B:VCCO_29  pas
R24  B2A:IO_L29N_2
R25  B2A:IO_L29P_2
R26  B2B:IO_L33N_2
R27  B2B:VCCO_210  pas
R28  B2A:IO_L30N_2
R29  B2A:IO_L30P_2
R30  BVCCAUX:VCCAUX13  pas
R31  B2A:IO_L31N_2
R32  B2B:IO_L31P_2
R33  B2B:IO_L32N_2
R34  B2B:IO_L32P_2
T1  BGNDB:GND68  pas
T2  B7B:IO_L35N_7
T3  B7B:IO_L35P_7
T4  B7B:VCCO_711  pas
T5  BGNDB:GND69  pas
T6  B7B:IO_L34N_7
T7  B7B:IO_L34P_7
T8  BVCCAUX:VCCAUX14  pas
T9  BGNDB:GND70  pas
T10  B7B:IO_L33N_7
T12  B7B:VCCO_712  pas
T13  BVCCINT:VCCINT16  pas
T14  BGNDB:GND71  pas
T15  BGNDB:GND72  pas
T16  BGNDB:GND73  pas
T17  BGNDB:GND74  pas
T18  BGNDB:GND75  pas
T19  BGNDB:GND76  pas
T20  BGNDB:GND77  pas
T21  BGNDB:GND78  pas
T22  BVCCINT:VCCINT17  pas
T23  B2B:VCCO_211  pas
T25  B2B:IO_L33P_2
T26  BGNDB:GND79  pas
T27  BVCCAUX:VCCAUX15  pas
T28  B2B:IO_L34N_2VREF_2
T29  B2B:IO_L34P_2
T30  BGNDB:GND80  pas
T31  B2B:VCCO_212  pas
T32  B2B:IO_L35N_2
T33  B2B:IO_L35P_2
T34  BGNDB:GND81  pas
U1  B7B:IO_L40N_7VREF_7
U2  B7B:IO_L40P_7
U3  B7B:IO_L39N_7
U4  B7B:IO_L39P_7
U5  B7B:IO_L38N_7
U6  B7B:IO_L38P_7
U7  B7B:IO_L37N_7
U8  B7B:IO_L37P_7VREF_7
U9  B7B:IO_L36N_7
U10  B7B:IO_L52P_7
U12  BVCCINT:VCCINT18  pas
U13  BGNDB:GND82  pas
U14  BGNDB:GND83  pas
U15  BGNDB:GND84  pas
U16  BGNDB:GND85  pas
U17  BGNDB:GND86  pas
U18  BGNDB:GND87  pas
U19  BGNDB:GND88  pas
U20  BGNDB:GND89  pas
U21  BGNDB:GND90  pas
U22  BGNDB:GND91  pas
U23  BVCCINT:VCCINT19  pas
U25  B2B:IO_L36N_2
U26  B2B:IO_L52P_2
U27  B2B:IO_L37N_2
U28  B2B:IO_L37P_2
U29  B2B:IO_L38N_2
U30  B2B:IO_L38P_2
U31  B2B:IO_L39N_2
U32  B2B:IO_L39P_2
U33  B2B:IO_L40N_2
U34  B2B:IO_L40P_2VREF_2
V1  B6B:IO_L40P_6VREF_6
V2  B6B:IO_L40N_6
V3  B6B:IO_L39P_6
V4  B6B:IO_L39N_6
V5  B6B:IO_L38P_6
V6  B6B:IO_L38N_6
V7  B6B:IO_L52P_6
V8  B6B:IO_L52N_6
V9  B6B:IO_L51P_6
V10  B6B:IO_L50N_6
V12  BVCCINT:VCCINT20  pas
V13  BGNDC:GND92  pas
V14  BGNDC:GND93  pas
V15  BGNDC:GND94  pas
V16  BGNDC:GND95  pas
V17  BGNDC:GND96  pas
V18  BGNDC:GND97  pas
V19  BGNDC:GND98  pas
V20  BGNDC:GND99  pas
V21  BGNDC:GND100  pas
V22  BGNDC:GND101  pas
V23  BVCCINT:VCCINT21  pas
V25  B3B:IO_L36P_3
V26  B3B:IO_L52N_3
V27  B3B:IO_L37P_3
V28  B3B:IO_L37N_3
V29  B3B:IO_L38P_3
V30  B3B:IO_L38N_3
V31  B3B:IO_L39P_3
V32  B3B:IO_L39N_3
V33  B3B:IO_L40P_3
V34  B3B:IO_L40N_3VREF_3
W1  BGNDC:GND102  pas
W2  B6B:IO_L37P_6
W3  B6B:IO_L37N_6
W4  B6B:VCCO_60  pas
W5  BGNDC:GND103  pas
W6  B6B:IO_L36P_6
W7  B6B:IO_L36N_6
W8  BVCCAUX:VCCAUX16  pas
W9  BGNDC:GND104  pas
W10  B6B:IO_L35P_6
W12  B6B:VCCO_61  pas
W13  BVCCINT:VCCINT22  pas
W14  BGNDC:GND105  pas
W15  BGNDC:GND106  pas
W16  BGNDC:GND107  pas
W17  BGNDC:GND108  pas
W18  BGNDC:GND109  pas
W19  BGNDC:GND110  pas
W20  BGNDC:GND111  pas
W21  BGNDC:GND112  pas
W22  BVCCINT:VCCINT23  pas
W23  B3B:VCCO_30  pas
W25  B3B:IO_L33N_3
W26  BGNDC:GND113  pas
W27  BVCCAUX:VCCAUX17  pas
W28  B3B:IO_L34P_3VREF_3
W29  B3B:IO_L34N_3
W30  BGNDC:GND114  pas
W31  B3B:VCCO_31  pas
W32  B3B:IO_L35P_3
W33  B3B:IO_L35N_3
W34  BGNDC:GND115  pas
Y1  B6B:IO_L34P_6
Y2  B6B:IO_L34N_6VREF_6
Y3  B6B:IO_L33P_6
Y4  B6B:IO_L33N_6
Y5  BVCCAUX:VCCAUX18  pas
Y6  B6B:IO_L48P_6
Y7  B6B:IO_L48N_6
Y8  B6B:VCCO_62  pas
Y9  B6B:IO_L35N_6
Y10  B6B:IO_L32P_6
Y11  B6B:IO_L32N_6
Y12  B6B:VCCO_63  pas
Y13  BVCCINT:VCCINT24  pas
Y14  BGNDC:GND116  pas
Y15  BGNDC:GND117  pas
Y16  BGNDC:GND118  pas
Y17  BGNDC:GND119  pas
Y18  BGNDC:GND120  pas
Y19  BGNDC:GND121  pas
Y20  BGNDC:GND122  pas
Y21  BGNDC:GND123  pas
Y22  BVCCINT:VCCINT25  pas
Y23  B3B:VCCO_32  pas
Y24  B3B:IO_L50P_3
Y25  B3B:IO_L50N_3
Y26  B3B:IO_L33P_3
Y27  B3B:VCCO_33  pas
Y28  B3A:IO_L30P_3
Y29  B3B:IO_L30N_3
Y30  BVCCAUX:VCCAUX19  pas
Y31  B3B:IO_L31P_3
Y32  B3B:IO_L31N_3
Y33  B3B:IO_L32P_3
Y34  B3B:IO_L32N_3

## Footprint FG1156 (pad centres in mm)
smd 0.4 x 0.4: A1 -16.5,16.5; A2 -15.5,16.5; A3 -14.5,16.5; A4 -13.5,16.5; A5 -12.5,16.5; A6 -11.5,16.5; A7 -10.5,16.5; A8 -9.5,16.5; A9 -8.5,16.5; A10 -7.5,16.5; A11 -6.5,16.5; A12 -5.5,16.5; A13 -4.5,16.5; A14 -3.5,16.5; A15 -2.5,16.5; A16 -1.5,16.5; A17 -0.5,16.5; A18 0.5,16.5; A19 1.5,16.5; A20 2.5,16.5; A21 3.5,16.5; A22 4.5,16.5; A23 5.5,16.5; A24 6.5,16.5; A25 7.5,16.5; A26 8.5,16.5; A27 9.5,16.5; A28 10.5,16.5; A29 11.5,16.5; A30 12.5,16.5; A31 13.5,16.5; A32 14.5,16.5; A33 15.5,16.5; A34 16.5,16.5; AA1 -16.5,-3.5; AA2 -15.5,-3.5; AA3 -14.5,-3.5; AA4 -13.5,-3.5; AA5 -12.5,-3.5; AA6 -11.5,-3.5; AA7 -10.5,-3.5; AA8 -9.5,-3.5; AA9 -8.5,-3.5; AA10 -7.5,-3.5; AA11 -6.5,-3.5; AA12 -5.5,-3.5; AA13 -4.5,-3.5; AA14 -3.5,-3.5; AA15 -2.5,-3.5; AA16 -1.5,-3.5; AA17 -0.5,-3.5; AA18 0.5,-3.5; AA19 1.5,-3.5; AA20 2.5,-3.5; AA21 3.5,-3.5; AA22 4.5,-3.5; AA23 5.5,-3.5; AA24 6.5,-3.5; AA25 7.5,-3.5; AA26 8.5,-3.5; AA27 9.5,-3.5; AA28 10.5,-3.5; AA29 11.5,-3.5; AA30 12.5,-3.5; AA31 13.5,-3.5; AA32 14.5,-3.5; AA33 15.5,-3.5; AA34 16.5,-3.5; AB1 -16.5,-4.5; AB2 -15.5,-4.5; AB3 -14.5,-4.5; AB4 -13.5,-4.5; AB5 -12.5,-4.5; AB6 -11.5,-4.5; AB7 -10.5,-4.5; AB8 -9.5,-4.5; AB9 -8.5,-4.5; AB10 -7.5,-4.5; AB11 -6.5,-4.5; AB12 -5.5,-4.5; AB13 -4.5,-4.5; AB14 -3.5,-4.5; AB15 -2.5,-4.5; AB16 -1.5,-4.5; AB17 -0.5,-4.5; AB18 0.5,-4.5; AB19 1.5,-4.5; AB20 2.5,-4.5; AB21 3.5,-4.5; AB22 4.5,-4.5; AB23 5.5,-4.5; AB24 6.5,-4.5; AB25 7.5,-4.5; AB26 8.5,-4.5; AB27 9.5,-4.5; AB28 10.5,-4.5; AB29 11.5,-4.5; AB30 12.5,-4.5; AB31 13.5,-4.5; AB32 14.5,-4.5; AB33 15.5,-4.5; AB34 16.5,-4.5; AC1 -16.5,-5.5; AC2 -15.5,-5.5; AC3 -14.5,-5.5; AC4 -13.5,-5.5; AC5 -12.5,-5.5; AC6 -11.5,-5.5; AC7 -10.5,-5.5; AC8 -9.5,-5.5; AC9 -8.5,-5.5; AC10 -7.5,-5.5; AC11 -6.5,-5.5; AC12 -5.5,-5.5; AC13 -4.5,-5.5; AC14 -3.5,-5.5; AC15 -2.5,-5.5; AC16 -1.5,-5.5; AC17 -0.5,-5.5; AC18 0.5,-5.5; AC19 1.5,-5.5; AC20 2.5,-5.5; AC21 3.5,-5.5; AC22 4.5,-5.5; AC23 5.5,-5.5; AC24 6.5,-5.5; AC25 7.5,-5.5; AC26 8.5,-5.5; AC27 9.5,-5.5; AC28 10.5,-5.5; AC29 11.5,-5.5; AC30 12.5,-5.5; AC31 13.5,-5.5; AC32 14.5,-5.5; AC33 15.5,-5.5; AC34 16.5,-5.5; AD1 -16.5,-6.5; AD2 -15.5,-6.5; AD3 -14.5,-6.5; AD4 -13.5,-6.5; AD5 -12.5,-6.5; AD6 -11.5,-6.5; AD7 -10.5,-6.5; AD8 -9.5,-6.5; AD9 -8.5,-6.5; AD10 -7.5,-6.5; AD11 -6.5,-6.5; AD12 -5.5,-6.5; AD13 -4.5,-6.5; AD14 -3.5,-6.5; AD15 -2.5,-6.5; AD16 -1.5,-6.5; AD17 -0.5,-6.5; AD18 0.5,-6.5; AD19 1.5,-6.5; AD20 2.5,-6.5; AD21 3.5,-6.5; AD22 4.5,-6.5; AD23 5.5,-6.5; AD24 6.5,-6.5; AD25 7.5,-6.5; AD26 8.5,-6.5; AD27 9.5,-6.5; AD28 10.5,-6.5; AD29 11.5,-6.5; AD30 12.5,-6.5; AD31 13.5,-6.5; AD32 14.5,-6.5; AD33 15.5,-6.5; AD34 16.5,-6.5; AE1 -16.5,-7.5; AE2 -15.5,-7.5; AE3 -14.5,-7.5; AE4 -13.5,-7.5; AE5 -12.5,-7.5; AE6 -11.5,-7.5; AE7 -10.5,-7.5; AE8 -9.5,-7.5; AE9 -8.5,-7.5; AE10 -7.5,-7.5; AE11 -6.5,-7.5; AE12 -5.5,-7.5; AE13 -4.5,-7.5; AE14 -3.5,-7.5; AE15 -2.5,-7.5; AE16 -1.5,-7.5; AE17 -0.5,-7.5; AE18 0.5,-7.5; AE19 1.5,-7.5; AE20 2.5,-7.5; AE21 3.5,-7.5; AE22 4.5,-7.5; AE23 5.5,-7.5; AE24 6.5,-7.5; AE25 7.5,-7.5; AE26 8.5,-7.5; AE27 9.5,-7.5; AE28 10.5,-7.5; AE29 11.5,-7.5; AE30 12.5,-7.5; AE31 13.5,-7.5; AE32 14.5,-7.5; AE33 15.5,-7.5; AE34 16.5,-7.5; AF1 -16.5,-8.5; AF2 -15.5,-8.5; AF3 -14.5,-8.5; AF4 -13.5,-8.5; AF5 -12.5,-8.5; AF6 -11.5,-8.5; AF7 -10.5,-8.5; AF8 -9.5,-8.5; AF9 -8.5,-8.5; AF10 -7.5,-8.5; AF11 -6.5,-8.5; AF12 -5.5,-8.5; AF13 -4.5,-8.5; AF14 -3.5,-8.5; AF15 -2.5,-8.5; AF16 -1.5,-8.5; AF17 -0.5,-8.5; AF18 0.5,-8.5; AF19 1.5,-8.5; AF20 2.5,-8.5; AF21 3.5,-8.5; AF22 4.5,-8.5; AF23 5.5,-8.5; AF24 6.5,-8.5; AF25 7.5,-8.5; AF26 8.5,-8.5; AF27 9.5,-8.5; AF28 10.5,-8.5; AF29 11.5,-8.5; AF30 12.5,-8.5; AF31 13.5,-8.5; AF32 14.5,-8.5; AF33 15.5,-8.5; AF34 16.5,-8.5; AG1 -16.5,-9.5; AG2 -15.5,-9.5; AG3 -14.5,-9.5; AG4 -13.5,-9.5; AG5 -12.5,-9.5; AG6 -11.5,-9.5; AG7 -10.5,-9.5; AG8 -9.5,-9.5; AG9 -8.5,-9.5; AG10 -7.5,-9.5; AG11 -6.5,-9.5; AG12 -5.5,-9.5; AG13 -4.5,-9.5; AG14 -3.5,-9.5; AG15 -2.5,-9.5; AG16 -1.5,-9.5; AG17 -0.5,-9.5; AG18 0.5,-9.5; AG19 1.5,-9.5; AG20 2.5,-9.5; AG21 3.5,-9.5; AG22 4.5,-9.5; AG23 5.5,-9.5; AG24 6.5,-9.5; AG25 7.5,-9.5; AG26 8.5,-9.5; AG27 9.5,-9.5; AG28 10.5,-9.5; AG29 11.5,-9.5; AG30 12.5,-9.5; AG31 13.5,-9.5; AG32 14.5,-9.5; AG33 15.5,-9.5; AG34 16.5,-9.5; AH1 -16.5,-10.5; AH2 -15.5,-10.5; AH3 -14.5,-10.5; AH4 -13.5,-10.5; AH5 -12.5,-10.5; AH6 -11.5,-10.5; AH7 -10.5,-10.5; AH8 -9.5,-10.5; AH9 -8.5,-10.5; AH10 -7.5,-10.5; AH11 -6.5,-10.5; AH12 -5.5,-10.5; AH13 -4.5,-10.5; AH14 -3.5,-10.5; AH15 -2.5,-10.5; AH16 -1.5,-10.5; AH17 -0.5,-10.5; AH18 0.5,-10.5; AH19 1.5,-10.5; AH20 2.5,-10.5; AH21 3.5,-10.5; AH22 4.5,-10.5; AH23 5.5,-10.5; AH24 6.5,-10.5; AH25 7.5,-10.5; AH26 8.5,-10.5; AH27 9.5,-10.5; AH28 10.5,-10.5; AH29 11.5,-10.5; AH30 12.5,-10.5; AH31 13.5,-10.5; AH32 14.5,-10.5; AH33 15.5,-10.5; AH34 16.5,-10.5; AJ1 -16.5,-11.5; AJ2 -15.5,-11.5; AJ3 -14.5,-11.5; AJ4 -13.5,-11.5; AJ5 -12.5,-11.5; AJ6 -11.5,-11.5; AJ7 -10.5,-11.5; AJ8 -9.5,-11.5; AJ9 -8.5,-11.5; AJ10 -7.5,-11.5; AJ11 -6.5,-11.5; AJ12 -5.5,-11.5; AJ13 -4.5,-11.5; AJ14 -3.5,-11.5; AJ15 -2.5,-11.5; AJ16 -1.5,-11.5; AJ17 -0.5,-11.5; AJ18 0.5,-11.5; AJ19 1.5,-11.5; AJ20 2.5,-11.5; AJ21 3.5,-11.5; AJ22 4.5,-11.5; AJ23 5.5,-11.5; AJ24 6.5,-11.5; AJ25 7.5,-11.5; AJ26 8.5,-11.5; AJ27 9.5,-11.5; AJ28 10.5,-11.5; AJ29 11.5,-11.5; AJ30 12.5,-11.5; AJ31 13.5,-11.5; AJ32 14.5,-11.5; AJ33 15.5,-11.5; AJ34 16.5,-11.5; AK1 -16.5,-12.5; AK2 -15.5,-12.5; AK3 -14.5,-12.5; AK4 -13.5,-12.5; AK5 -12.5,-12.5; AK6 -11.5,-12.5; AK7 -10.5,-12.5; AK8 -9.5,-12.5; AK9 -8.5,-12.5; AK10 -7.5,-12.5; AK11 -6.5,-12.5; AK12 -5.5,-12.5; AK13 -4.5,-12.5; AK14 -3.5,-12.5; AK15 -2.5,-12.5; AK16 -1.5,-12.5; AK17 -0.5,-12.5; AK18 0.5,-12.5; AK19 1.5,-12.5; AK20 2.5,-12.5; AK21 3.5,-12.5; AK22 4.5,-12.5; AK23 5.5,-12.5; AK24 6.5,-12.5; AK25 7.5,-12.5; AK26 8.5,-12.5; AK27 9.5,-12.5; AK28 10.5,-12.5; AK29 11.5,-12.5; AK30 12.5,-12.5; AK31 13.5,-12.5; AK32 14.5,-12.5; AK33 15.5,-12.5; AK34 16.5,-12.5; AL1 -16.5,-13.5; AL2 -15.5,-13.5; AL3 -14.5,-13.5; AL4 -13.5,-13.5; AL5 -12.5,-13.5; AL6 -11.5,-13.5; AL7 -10.5,-13.5; AL8 -9.5,-13.5; AL9 -8.5,-13.5; AL10 -7.5,-13.5; AL11 -6.5,-13.5; AL12 -5.5,-13.5; AL13 -4.5,-13.5; AL14 -3.5,-13.5; AL15 -2.5,-13.5; AL16 -1.5,-13.5; AL17 -0.5,-13.5; AL18 0.5,-13.5; AL19 1.5,-13.5; AL20 2.5,-13.5; AL21 3.5,-13.5; AL22 4.5,-13.5; AL23 5.5,-13.5; AL24 6.5,-13.5; AL25 7.5,-13.5; AL26 8.5,-13.5; AL27 9.5,-13.5; AL28 10.5,-13.5; AL29 11.5,-13.5; AL30 12.5,-13.5; AL31 13.5,-13.5; AL32 14.5,-13.5; AL33 15.5,-13.5; AL34 16.5,-13.5; AM1 -16.5,-14.5; AM2 -15.5,-14.5; AM3 -14.5,-14.5; AM4 -13.5,-14.5; AM5 -12.5,-14.5; AM6 -11.5,-14.5; AM7 -10.5,-14.5; AM8 -9.5,-14.5; AM9 -8.5,-14.5; AM10 -7.5,-14.5; AM11 -6.5,-14.5; AM12 -5.5,-14.5; AM13 -4.5,-14.5; AM14 -3.5,-14.5; AM15 -2.5,-14.5; AM16 -1.5,-14.5; AM17 -0.5,-14.5; AM18 0.5,-14.5; AM19 1.5,-14.5; AM20 2.5,-14.5; AM21 3.5,-14.5; AM22 4.5,-14.5; AM23 5.5,-14.5; AM24 6.5,-14.5; AM25 7.5,-14.5; AM26 8.5,-14.5; AM27 9.5,-14.5; AM28 10.5,-14.5; AM29 11.5,-14.5; AM30 12.5,-14.5; AM31 13.5,-14.5; AM32 14.5,-14.5; AM33 15.5,-14.5; AM34 16.5,-14.5; AN1 -16.5,-15.5; AN2 -15.5,-15.5; AN3 -14.5,-15.5; AN4 -13.5,-15.5; AN5 -12.5,-15.5; AN6 -11.5,-15.5; AN7 -10.5,-15.5; AN8 -9.5,-15.5; AN9 -8.5,-15.5; AN10 -7.5,-15.5; AN11 -6.5,-15.5; AN12 -5.5,-15.5; AN13 -4.5,-15.5; AN14 -3.5,-15.5; AN15 -2.5,-15.5; AN16 -1.5,-15.5; AN17 -0.5,-15.5; AN18 0.5,-15.5; AN19 1.5,-15.5; AN20 2.5,-15.5; AN21 3.5,-15.5; AN22 4.5,-15.5; AN23 5.5,-15.5; AN24 6.5,-15.5; AN25 7.5,-15.5; AN26 8.5,-15.5; AN27 9.5,-15.5; AN28 10.5,-15.5; AN29 11.5,-15.5; AN30 12.5,-15.5; AN31 13.5,-15.5; AN32 14.5,-15.5; AN33 15.5,-15.5; AN34 16.5,-15.5; AP1 -16.5,-16.5; AP2 -15.5,-16.5; AP3 -14.5,-16.5; AP4 -13.5,-16.5; AP5 -12.5,-16.5; AP6 -11.5,-16.5; AP7 -10.5,-16.5; AP8 -9.5,-16.5; AP9 -8.5,-16.5; AP10 -7.5,-16.5; AP11 -6.5,-16.5; AP12 -5.5,-16.5; AP13 -4.5,-16.5; AP14 -3.5,-16.5; AP15 -2.5,-16.5; AP16 -1.5,-16.5; AP17 -0.5,-16.5; AP18 0.5,-16.5; AP19 1.5,-16.5; AP20 2.5,-16.5; AP21 3.5,-16.5; AP22 4.5,-16.5; AP23 5.5,-16.5; AP24 6.5,-16.5; AP25 7.5,-16.5; AP26 8.5,-16.5; AP27 9.5,-16.5; AP28 10.5,-16.5; AP29 11.5,-16.5; AP30 12.5,-16.5; AP31 13.5,-16.5; AP32 14.5,-16.5; AP33 15.5,-16.5; AP34 16.5,-16.5; B1 -16.5,15.5; B2 -15.5,15.5; B3 -14.5,15.5; B4 -13.5,15.5; B5 -12.5,15.5; B6 -11.5,15.5; B7 -10.5,15.5; B8 -9.5,15.5; B9 -8.5,15.5; B10 -7.5,15.5; B11 -6.5,15.5; B12 -5.5,15.5; B13 -4.5,15.5; B14 -3.5,15.5; B15 -2.5,15.5; B16 -1.5,15.5; B17 -0.5,15.5; B18 0.5,15.5; B19 1.5,15.5; B20 2.5,15.5; B21 3.5,15.5; B22 4.5,15.5; B23 5.5,15.5; B24 6.5,15.5; B25 7.5,15.5; B26 8.5,15.5; B27 9.5,15.5; B28 10.5,15.5; B29 11.5,15.5; B30 12.5,15.5; B31 13.5,15.5; B32 14.5,15.5; B33 15.5,15.5; B34 16.5,15.5; C1 -16.5,14.5; C2 -15.5,14.5; C3 -14.5,14.5; C4 -13.5,14.5; C5 -12.5,14.5; C6 -11.5,14.5; C7 -10.5,14.5; C8 -9.5,14.5; C9 -8.5,14.5; C10 -7.5,14.5; C11 -6.5,14.5; C12 -5.5,14.5; C13 -4.5,14.5; C14 -3.5,14.5; C15 -2.5,14.5; C16 -1.5,14.5; C17 -0.5,14.5; C18 0.5,14.5; C19 1.5,14.5; C20 2.5,14.5; C21 3.5,14.5; C22 4.5,14.5; C23 5.5,14.5; C24 6.5,14.5; C25 7.5,14.5; C26 8.5,14.5; C27 9.5,14.5; C28 10.5,14.5; C29 11.5,14.5; C30 12.5,14.5; C31 13.5,14.5; C32 14.5,14.5; C33 15.5,14.5; C34 16.5,14.5; D1 -16.5,13.5; D2 -15.5,13.5; D3 -14.5,13.5; D4 -13.5,13.5; D5 -12.5,13.5; D6 -11.5,13.5; D7 -10.5,13.5; D8 -9.5,13.5; D9 -8.5,13.5; D10 -7.5,13.5; D11 -6.5,13.5; D12 -5.5,13.5; D13 -4.5,13.5; D14 -3.5,13.5; D15 -2.5,13.5; D16 -1.5,13.5; D17 -0.5,13.5; D18 0.5,13.5; D19 1.5,13.5; D20 2.5,13.5; D21 3.5,13.5; D22 4.5,13.5; D23 5.5,13.5; D24 6.5,13.5; D25 7.5,13.5; D26 8.5,13.5; D27 9.5,13.5; D28 10.5,13.5; D29 11.5,13.5; D30 12.5,13.5; D31 13.5,13.5; D32 14.5,13.5; D33 15.5,13.5; D34 16.5,13.5; E1 -16.5,12.5; E2 -15.5,12.5; E3 -14.5,12.5; E4 -13.5,12.5; E5 -12.5,12.5; E6 -11.5,12.5; E7 -10.5,12.5; E8 -9.5,12.5; E9 -8.5,12.5; E10 -7.5,12.5; E11 -6.5,12.5; E12 -5.5,12.5; E13 -4.5,12.5; E14 -3.5,12.5; E15 -2.5,12.5; E16 -1.5,12.5; E17 -0.5,12.5; E18 0.5,12.5; E19 1.5,12.5; E20 2.5,12.5; E21 3.5,12.5; E22 4.5,12.5; E23 5.5,12.5; E24 6.5,12.5; E25 7.5,12.5; E26 8.5,12.5; E27 9.5,12.5; E28 10.5,12.5; E29 11.5,12.5; E30 12.5,12.5; E31 13.5,12.5; E32 14.5,12.5; E33 15.5,12.5; E34 16.5,12.5; F1 -16.5,11.5; F2 -15.5,11.5; F3 -14.5,11.5; F4 -13.5,11.5; F5 -12.5,11.5; F6 -11.5,11.5; F7 -10.5,11.5; F8 -9.5,11.5; F9 -8.5,11.5; F10 -7.5,11.5; F11 -6.5,11.5; F12 -5.5,11.5; F13 -4.5,11.5; F14 -3.5,11.5; F15 -2.5,11.5; F16 -1.5,11.5; F17 -0.5,11.5; F18 0.5,11.5; F19 1.5,11.5; F20 2.5,11.5; F21 3.5,11.5; F22 4.5,11.5; F23 5.5,11.5; F24 6.5,11.5; F25 7.5,11.5; F26 8.5,11.5; F27 9.5,11.5; F28 10.5,11.5; F29 11.5,11.5; F30 12.5,11.5; F31 13.5,11.5; F32 14.5,11.5; F33 15.5,11.5; F34 16.5,11.5; G1 -16.5,10.5; G2 -15.5,10.5; G3 -14.5,10.5; G4 -13.5,10.5; G5 -12.5,10.5; G6 -11.5,10.5; G7 -10.5,10.5; G8 -9.5,10.5; G9 -8.5,10.5; G10 -7.5,10.5; G11 -6.5,10.5; G12 -5.5,10.5; G13 -4.5,10.5; G14 -3.5,10.5; G15 -2.5,10.5; G16 -1.5,10.5; G17 -0.5,10.5; G18 0.5,10.5; G19 1.5,10.5; G20 2.5,10.5; G21 3.5,10.5; G22 4.5,10.5; G23 5.5,10.5; G24 6.5,10.5; G25 7.5,10.5; G26 8.5,10.5; G27 9.5,10.5; G28 10.5,10.5; G29 11.5,10.5; G30 12.5,10.5; G31 13.5,10.5; G32 14.5,10.5; G33 15.5,10.5; G34 16.5,10.5; H1 -16.5,9.5; H2 -15.5,9.5; H3 -14.5,9.5; H4 -13.5,9.5; H5 -12.5,9.5; H6 -11.5,9.5; H7 -10.5,9.5; H8 -9.5,9.5; H9 -8.5,9.5; H10 -7.5,9.5; H11 -6.5,9.5; H12 -5.5,9.5; H13 -4.5,9.5; H14 -3.5,9.5; H15 -2.5,9.5; H16 -1.5,9.5; H17 -0.5,9.5; H18 0.5,9.5; H19 1.5,9.5; H20 2.5,9.5; H21 3.5,9.5; H22 4.5,9.5; H23 5.5,9.5; H24 6.5,9.5; H25 7.5,9.5; H26 8.5,9.5; H27 9.5,9.5; H28 10.5,9.5; H29 11.5,9.5; H30 12.5,9.5; H31 13.5,9.5; H32 14.5,9.5; H33 15.5,9.5; H34 16.5,9.5; J1 -16.5,8.5; J2 -15.5,8.5; J3 -14.5,8.5; J4 -13.5,8.5; J5 -12.5,8.5; J6 -11.5,8.5; J7 -10.5,8.5; J8 -9.5,8.5; J9 -8.5,8.5; J10 -7.5,8.5; J11 -6.5,8.5; J12 -5.5,8.5; J13 -4.5,8.5; J14 -3.5,8.5; J15 -2.5,8.5; J16 -1.5,8.5; J17 -0.5,8.5; J18 0.5,8.5; J19 1.5,8.5; J20 2.5,8.5; J21 3.5,8.5; J22 4.5,8.5; J23 5.5,8.5; J24 6.5,8.5; J25 7.5,8.5; J26 8.5,8.5; J27 9.5,8.5; J28 10.5,8.5; J29 11.5,8.5; J30 12.5,8.5; J31 13.5,8.5; J32 14.5,8.5; J33 15.5,8.5; J34 16.5,8.5; K1 -16.5,7.5; K2 -15.5,7.5; K3 -14.5,7.5; K4 -13.5,7.5; K5 -12.5,7.5; K6 -11.5,7.5; K7 -10.5,7.5; K8 -9.5,7.5; K9 -8.5,7.5; K10 -7.5,7.5; K11 -6.5,7.5; K12 -5.5,7.5; K13 -4.5,7.5; K14 -3.5,7.5; K15 -2.5,7.5; K16 -1.5,7.5; K17 -0.5,7.5; K18 0.5,7.5; K19 1.5,7.5; K20 2.5,7.5; K21 3.5,7.5; K22 4.5,7.5; K23 5.5,7.5; K24 6.5,7.5; K25 7.5,7.5; K26 8.5,7.5; K27 9.5,7.5; K28 10.5,7.5; K29 11.5,7.5; K30 12.5,7.5; K31 13.5,7.5; K32 14.5,7.5; K33 15.5,7.5; K34 16.5,7.5; L1 -16.5,6.5; L2 -15.5,6.5; L3 -14.5,6.5; L4 -13.5,6.5; L5 -12.5,6.5; L6 -11.5,6.5; L7 -10.5,6.5; L8 -9.5,6.5; L9 -8.5,6.5; L10 -7.5,6.5; L11 -6.5,6.5; L12 -5.5,6.5; L13 -4.5,6.5; L14 -3.5,6.5; L15 -2.5,6.5; L16 -1.5,6.5; L17 -0.5,6.5; L18 0.5,6.5; L19 1.5,6.5; L20 2.5,6.5; L21 3.5,6.5; L22 4.5,6.5; L23 5.5,6.5; L24 6.5,6.5; L25 7.5,6.5; L26 8.5,6.5; L27 9.5,6.5; L28 10.5,6.5; L29 11.5,6.5; L30 12.5,6.5; L31 13.5,6.5; L32 14.5,6.5; L33 15.5,6.5; L34 16.5,6.5; M1 -16.5,5.5; M2 -15.5,5.5; M3 -14.5,5.5; M4 -13.5,5.5; M5 -12.5,5.5; M6 -11.5,5.5; M7 -10.5,5.5; M8 -9.5,5.5; M9 -8.5,5.5; M10 -7.5,5.5; M11 -6.5,5.5; M12 -5.5,5.5; M13 -4.5,5.5; M14 -3.5,5.5; M15 -2.5,5.5; M16 -1.5,5.5; M17 -0.5,5.5; M18 0.5,5.5; M19 1.5,5.5; M20 2.5,5.5; M21 3.5,5.5; M22 4.5,5.5; M23 5.5,5.5; M24 6.5,5.5; M25 7.5,5.5; M26 8.5,5.5; M27 9.5,5.5; M28 10.5,5.5; M29 11.5,5.5; M30 12.5,5.5; M31 13.5,5.5; M32 14.5,5.5; M33 15.5,5.5; M34 16.5,5.5; N1 -16.5,4.5; N2 -15.5,4.5; N3 -14.5,4.5; N4 -13.5,4.5; N5 -12.5,4.5; N6 -11.5,4.5; N7 -10.5,4.5; N8 -9.5,4.5; N9 -8.5,4.5; N10 -7.5,4.5; N11 -6.5,4.5; N12 -5.5,4.5; N13 -4.5,4.5; N14 -3.5,4.5; N15 -2.5,4.5; N16 -1.5,4.5; N17 -0.5,4.5; N18 0.5,4.5; N19 1.5,4.5; N20 2.5,4.5; N21 3.5,4.5; N22 4.5,4.5; N23 5.5,4.5; N24 6.5,4.5; N25 7.5,4.5; N26 8.5,4.5; N27 9.5,4.5; N28 10.5,4.5; N29 11.5,4.5; N30 12.5,4.5; N31 13.5,4.5; N32 14.5,4.5; N33 15.5,4.5; N34 16.5,4.5; P1 -16.5,3.5; P2 -15.5,3.5; P3 -14.5,3.5; P4 -13.5,3.5; P5 -12.5,3.5; P6 -11.5,3.5; P7 -10.5,3.5; P8 -9.5,3.5; P9 -8.5,3.5; P10 -7.5,3.5; P11 -6.5,3.5; P12 -5.5,3.5; P13 -4.5,3.5; P14 -3.5,3.5; P15 -2.5,3.5; P16 -1.5,3.5; P17 -0.5,3.5; P18 0.5,3.5; P19 1.5,3.5; P20 2.5,3.5; P21 3.5,3.5; P22 4.5,3.5; P23 5.5,3.5; P24 6.5,3.5; P25 7.5,3.5; P26 8.5,3.5; P27 9.5,3.5; P28 10.5,3.5; P29 11.5,3.5; P30 12.5,3.5; P31 13.5,3.5; P32 14.5,3.5; P33 15.5,3.5; P34 16.5,3.5; R1 -16.5,2.5; R2 -15.5,2.5; R3 -14.5,2.5; R4 -13.5,2.5; R5 -12.5,2.5; R6 -11.5,2.5; R7 -10.5,2.5; R8 -9.5,2.5; R9 -8.5,2.5; R10 -7.5,2.5; R11 -6.5,2.5; R12 -5.5,2.5; R13 -4.5,2.5; R14 -3.5,2.5; R15 -2.5,2.5; R16 -1.5,2.5; R17 -0.5,2.5; R18 0.5,2.5; R19 1.5,2.5; R20 2.5,2.5; R21 3.5,2.5; R22 4.5,2.5; R23 5.5,2.5; R24 6.5,2.5; R25 7.5,2.5; R26 8.5,2.5; R27 9.5,2.5; R28 10.5,2.5; R29 11.5,2.5; R30 12.5,2.5; R31 13.5,2.5; R32 14.5,2.5; R33 15.5,2.5; R34 16.5,2.5; T1 -16.5,1.5; T2 -15.5,1.5; T3 -14.5,1.5; T4 -13.5,1.5; T5 -12.5,1.5; T6 -11.5,1.5; T7 -10.5,1.5; T8 -9.5,1.5; T9 -8.5,1.5; T10 -7.5,1.5; T11 -6.5,1.5; T12 -5.5,1.5; T13 -4.5,1.5; T14 -3.5,1.5; T15 -2.5,1.5; T16 -1.5,1.5; T17 -0.5,1.5; T18 0.5,1.5; T19 1.5,1.5; T20 2.5,1.5; T21 3.5,1.5; T22 4.5,1.5; T23 5.5,1.5; T24 6.5,1.5; T25 7.5,1.5; T26 8.5,1.5; T27 9.5,1.5; T28 10.5,1.5; T29 11.5,1.5; T30 12.5,1.5; T31 13.5,1.5; T32 14.5,1.5; T33 15.5,1.5; T34 16.5,1.5; U1 -16.5,0.5; U2 -15.5,0.5; U3 -14.5,0.5; U4 -13.5,0.5; U5 -12.5,0.5; U6 -11.5,0.5; U7 -10.5,0.5; U8 -9.5,0.5; U9 -8.5,0.5; U10 -7.5,0.5; U11 -6.5,0.5; U12 -5.5,0.5; U13 -4.5,0.5; U14 -3.5,0.5; U15 -2.5,0.5; U16 -1.5,0.5; U17 -0.5,0.5; U18 0.5,0.5; U19 1.5,0.5; U20 2.5,0.5; U21 3.5,0.5; U22 4.5,0.5; U23 5.5,0.5; U24 6.5,0.5; U25 7.5,0.5; U26 8.5,0.5; U27 9.5,0.5; U28 10.5,0.5; U29 11.5,0.5; U30 12.5,0.5; U31 13.5,0.5; U32 14.5,0.5; U33 15.5,0.5; U34 16.5,0.5; V1 -16.5,-0.5; V2 -15.5,-0.5; V3 -14.5,-0.5; V4 -13.5,-0.5; V5 -12.5,-0.5; V6 -11.5,-0.5; V7 -10.5,-0.5; V8 -9.5,-0.5; V9 -8.5,-0.5; V10 -7.5,-0.5; V11 -6.5,-0.5; V12 -5.5,-0.5; V13 -4.5,-0.5; V14 -3.5,-0.5; V15 -2.5,-0.5; V16 -1.5,-0.5; V17 -0.5,-0.5; V18 0.5,-0.5; V19 1.5,-0.5; V20 2.5,-0.5; V21 3.5,-0.5; V22 4.5,-0.5; V23 5.5,-0.5; V24 6.5,-0.5; V25 7.5,-0.5; V26 8.5,-0.5; V27 9.5,-0.5; V28 10.5,-0.5; V29 11.5,-0.5; V30 12.5,-0.5; V31 13.5,-0.5; V32 14.5,-0.5; V33 15.5,-0.5; V34 16.5,-0.5; W1 -16.5,-1.5; W2 -15.5,-1.5; W3 -14.5,-1.5; W4 -13.5,-1.5; W5 -12.5,-1.5; W6 -11.5,-1.5; W7 -10.5,-1.5; W8 -9.5,-1.5; W9 -8.5,-1.5; W10 -7.5,-1.5; W11 -6.5,-1.5; W12 -5.5,-1.5; W13 -4.5,-1.5; W14 -3.5,-1.5; W15 -2.5,-1.5; W16 -1.5,-1.5; W17 -0.5,-1.5; W18 0.5,-1.5; W19 1.5,-1.5; W20 2.5,-1.5; W21 3.5,-1.5; W22 4.5,-1.5; W23 5.5,-1.5; W24 6.5,-1.5; W25 7.5,-1.5; W26 8.5,-1.5; W27 9.5,-1.5; W28 10.5,-1.5; W29 11.5,-1.5; W30 12.5,-1.5; W31 13.5,-1.5; W32 14.5,-1.5; W33 15.5,-1.5; W34 16.5,-1.5; Y1 -16.5,-2.5; Y2 -15.5,-2.5; Y3 -14.5,-2.5; Y4 -13.5,-2.5; Y5 -12.5,-2.5; Y6 -11.5,-2.5; Y7 -10.5,-2.5; Y8 -9.5,-2.5; Y9 -8.5,-2.5; Y10 -7.5,-2.5; Y11 -6.5,-2.5; Y12 -5.5,-2.5; Y13 -4.5,-2.5; Y14 -3.5,-2.5; Y15 -2.5,-2.5; Y16 -1.5,-2.5; Y17 -0.5,-2.5; Y18 0.5,-2.5; Y19 1.5,-2.5; Y20 2.5,-2.5; Y21 3.5,-2.5; Y22 4.5,-2.5; Y23 5.5,-2.5; Y24 6.5,-2.5; Y25 7.5,-2.5; Y26 8.5,-2.5; Y27 9.5,-2.5; Y28 10.5,-2.5; Y29 11.5,-2.5; Y30 12.5,-2.5; Y31 13.5,-2.5; Y32 14.5,-2.5; Y33 15.5,-2.5; Y34 16.5,-2.5